# EAGLE library part TCD1304AP (library IRIS)
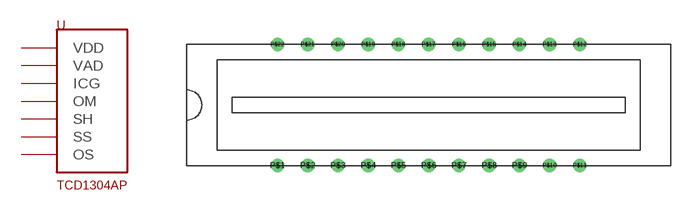
[diagram p0: symbol with the pads of TCD1304AP; footprint TCD1304AP]

Designator prefix -

## TCD1304AP  [TCD1304AP]
P$1  VDD
P$2  VAD
P$3  ICG
P$4  OM
P$5  SH
P$21  OS
P$22  SS

## Footprint TCD1304AP (pad centres in mm)
drill 0.6: P$1 -12.7,-5.08; P$2 -10.16,-5.08; P$3 -7.62,-5.08; P$4 -5.08,-5.08; P$5 -2.54,-5.08; P$6 0,-5.08; P$7 2.54,-5.08; P$8 5.08,-5.08; P$9 7.62,-5.08; P$10 10.16,-5.08; P$11 12.7,-5.08; P$12 12.7,5.08; P$13 10.16,5.08; P$14 7.62,5.08; P$15 5.08,5.08; P$16 2.54,5.08; P$17 0,5.08; P$18 -2.54,5.08; P$19 -5.08,5.08; P$20 -7.62,5.08; P$21 -10.16,5.08; P$22 -12.7,5.08